# EAGLE library part PPPC102LJBN-RC (library PPPC102LJBN-RC)
HEADER FEMALE, .100" [2.54mm] CC, 2 ROW, RA, positions per row Source: Datasheet <https://drawings-pdf.s3.amazonaws.com/10494.pdf>
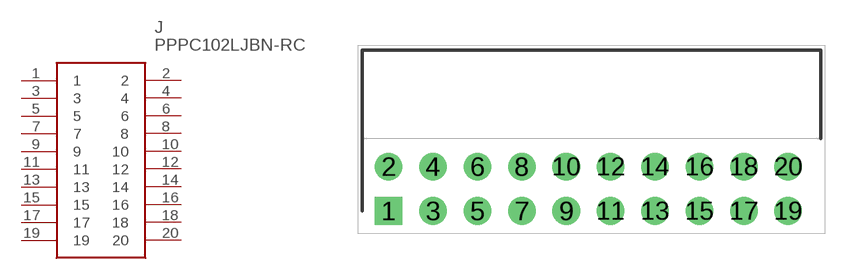
[diagram p0: symbol with the pads of RHDRRA20W60P254X254_2X10_2590X; footprint RHDRRA20W60P254X254_2X10_2590X]

Designator prefix J

## PPPC102LJBN-RC (Description: HEADER FEMALE, .100" [2.54mm] CC, 2 ROW, RA, positions per row; Height: 8.5mm; Manufacturer_Name: Sullins; Manufacturer_Part_Number: PPPC102LJBN-RC)  [RHDRRA20W60P254X254_2X10_2590X]
1  1
2  2
3  3
4  4
5  5
6  6
7  7
8  8
9  9
10  10
11  11
12  12
13  13
14  14
15  15
16  16
17  17
18  18
19  19
20  20

## Footprint RHDRRA20W60P254X254_2X10_2590X (pad centres in mm)
PPPC102LJBN-RC
drill 1.05 pad 1.575 square: 1 0,0
drill 1.05 pad 1.575: 2 0,2.54; 3 2.54,0; 4 2.54,2.54; 5 5.08,0; 6 5.08,2.54; 7 7.62,0; 8 7.62,2.54; 9 10.16,0; 10 10.16,2.54; 11 12.7,0; 12 12.7,2.54; 13 15.24,0; 14 15.24,2.54; 15 17.78,0; 16 17.78,2.54; 17 20.32,0; 18 20.32,2.54; 19 22.86,0; 20 22.86,2.54